# Altium schematic symbol library Temp Power_Board.SchLib: 10 symbols
Pins are listed as number, name and electrical type; pins without a type are passive.

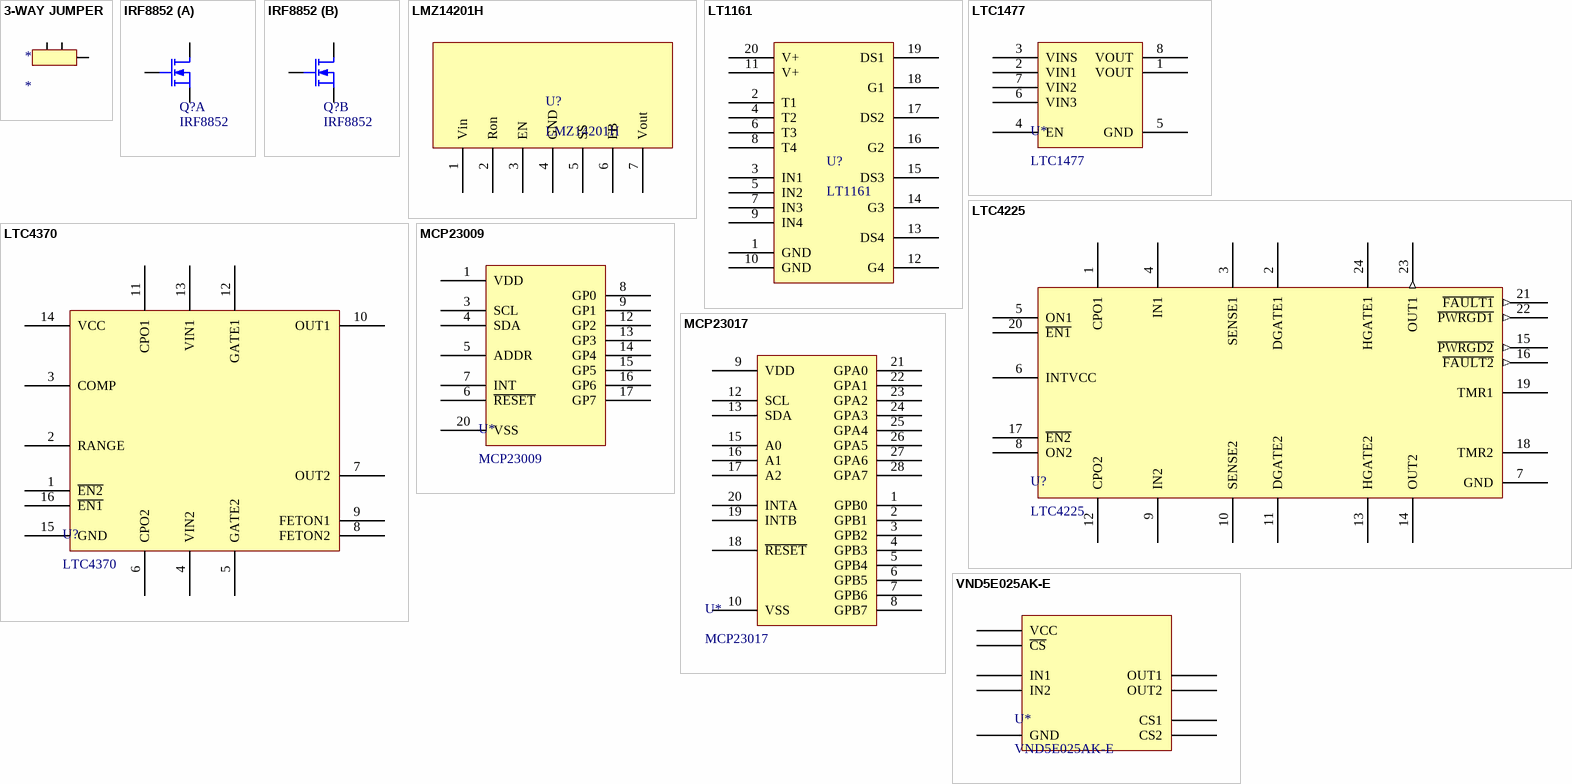
[diagram p0: symbols 3-WAY JUMPER to VND5E025AK-E]

## 3-WAY JUMPER
designator *
footprint BIDIRECTIONAL LED
pins: 1, 2, 3

## IRF8852
designator Q?
N-Channel MOSFET; Published: 8-Jun-2000; LatestRevisionDate: 17-Jul-2002; LatestRevisionNote: Re-released for DXP Platform.; PackageVersion: 1995/1996; PackageReference: E3; Publisher: Altium Limited; PackageDescription: TO, Flat Index; 3 In-Line, Axial Leads; Body Dia. 4.6mm; Lead Dia. 0.5 mm (max)
footprint TSSOP8
part A pins: D1 D, G1 G, S1 S
part B pins: D2 D, G2 G, S2 S

## LMZ14201H
designator U?
1A SIMPLE SWITCHER® Power Module for High Output  Voltage
footprint TO-PMOD-7
pins: 1 Vin, 2 Ron, 3 EN, 4 GND, 5 SS, 6 FB, 7 Vout

## LT1161
designator U?
Quad Protected High-Side  MOSFET Driver
footprint SOIC20 (SOIC, 20-Leads, Body 13.0x7.6mm (max), Pitch 1.27mm, IPC Medium Density)
pins: 1 GND, 2 T1, 3 IN1, 4 T2, 5 IN2, 6 T3, 7 IN3, 8 T4, 9 IN4, 10 GND, 11 V+, 12 G4, 13 DS4, 14 G3, 15 DS3, 16 G2, 17 DS2, 18 G1, 19 DS1, 20 V+

## LTC1477
designator U*
Single Protected High Side Switches
footprint SO8
pins: 1 VOUT, 2 VIN1, 3 VINS, 4 EN, 5 GND, 6 VIN3, 7 VIN2, 8 VOUT

## LTC4225
designator U?
Dual Ideal Diode and  Hot Swap Controller
footprint SSOP24
pins: 1 CPO1, 2 DGATE1, 3 SENSE1, 4 IN1, 5 ON1, 6 INTVCC, 7 GND, 8 ON2, 9 IN2, 10 SENSE2, 11 DGATE2, 12 CPO2, 13 HGATE2, 14 OUT2, 15 ~{PWRGD2} (out), 16 ~{FAULT2} (out), 17 ~{EN2}, 18 TMR2, 19 TMR1, 20 ~{EN1}, 21 ~{FAULT1} (out), 22 ~{PWRGD1} (out), 23 OUT1 (out), 24 HGATE1

## LTC4370
designator U?
Two-Supply Diode-OR Current Balancing Controller
footprint MSOP16 (TSSOP, 16-Leads, Body 4.1x3.1mm (max), Pitch 0.50mm, IPC Medium Density)
pins: 1 ~{EN2}, 2 RANGE, 3 COMP, 4 VIN2, 5 GATE2, 6 CPO2, 7 OUT2, 8 FETON2, 9 FETON1, 10 OUT1, 11 CPO1, 12 GATE1, 13 VIN1, 14 VCC, 15 GND, 16 ~{EN1}

## MCP23009
designator U*
8-Bit I/O Expander with Open-Drain Outputs
footprint SSOP20
pins: 1 VDD, 3 SCL, 4 SDA, 5 ADDR, 6 ~{RESET}, 7 INT, 8 GP0, 9 GP1, 12 GP2, 13 GP3, 14 GP4, 15 GP5, 16 GP6, 17 GP7, 20 VSS

## MCP23017
designator U*
16-Bit I/O Expander with Serial Interface
footprint SSOP28
pins: 1 GPB0, 2 GPB1, 3 GPB2, 4 GPB3, 5 GPB4, 6 GPB5, 7 GPB6, 8 GPB7, 9 VDD, 10 VSS, 12 SCL, 13 SDA, 15 A0, 16 A1, 17 A2, 18 ~{RESET}, 19 INTB, 20 INTA, 21 GPA0, 22 GPA1, 23 GPA2, 24 GPA3, 25 GPA4, 26 GPA5, 27 GPA6, 28 GPA7

## VND5E025AK-E
designator U*
Double channel high-side driver with analog current sense
footprint SSO24
pins: CS1, CS2, CS_DIS ~{CS}, GND, IN1, IN2, OUT1, OUT2, VCC